# EAGLE library part PRE-SCALER (library pre-scaler)
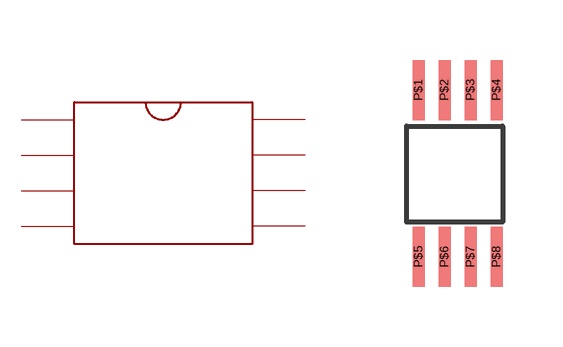
[diagram p0: symbol with the pads of PRESCALER; footprint PRESCALER]

Designator prefix -

## PRE-SCALER  [PRESCALER]
P$1  P$1
P$2  P$2
P$3  P$3
P$4  P$4
P$5  P$5
P$6  P$6
P$7  P$7
P$8  P$8

## Footprint PRESCALER (pad centres in mm)
smd 0.3 x 1.5: P$1 -1.3,1.3; P$2 -0.65,1.3; P$3 0,1.3; P$4 0.65,1.3; P$5 -1.3,-2.869; P$6 -0.65,-2.869; P$7 0,-2.869; P$8 0.65,-2.869